# Altium footprint library Constructions.PcbLib: 15 footprints
Each footprint in its own frame and in the unit in brackets; x right, y up, seen from the top. Pads: shape width x height; smd on the part's side, far side on the other; paste and mask are expansions set on the pad; w line width, h text height; cw(c..) or ccw(c..) is an arc to the next point about the centre after c.
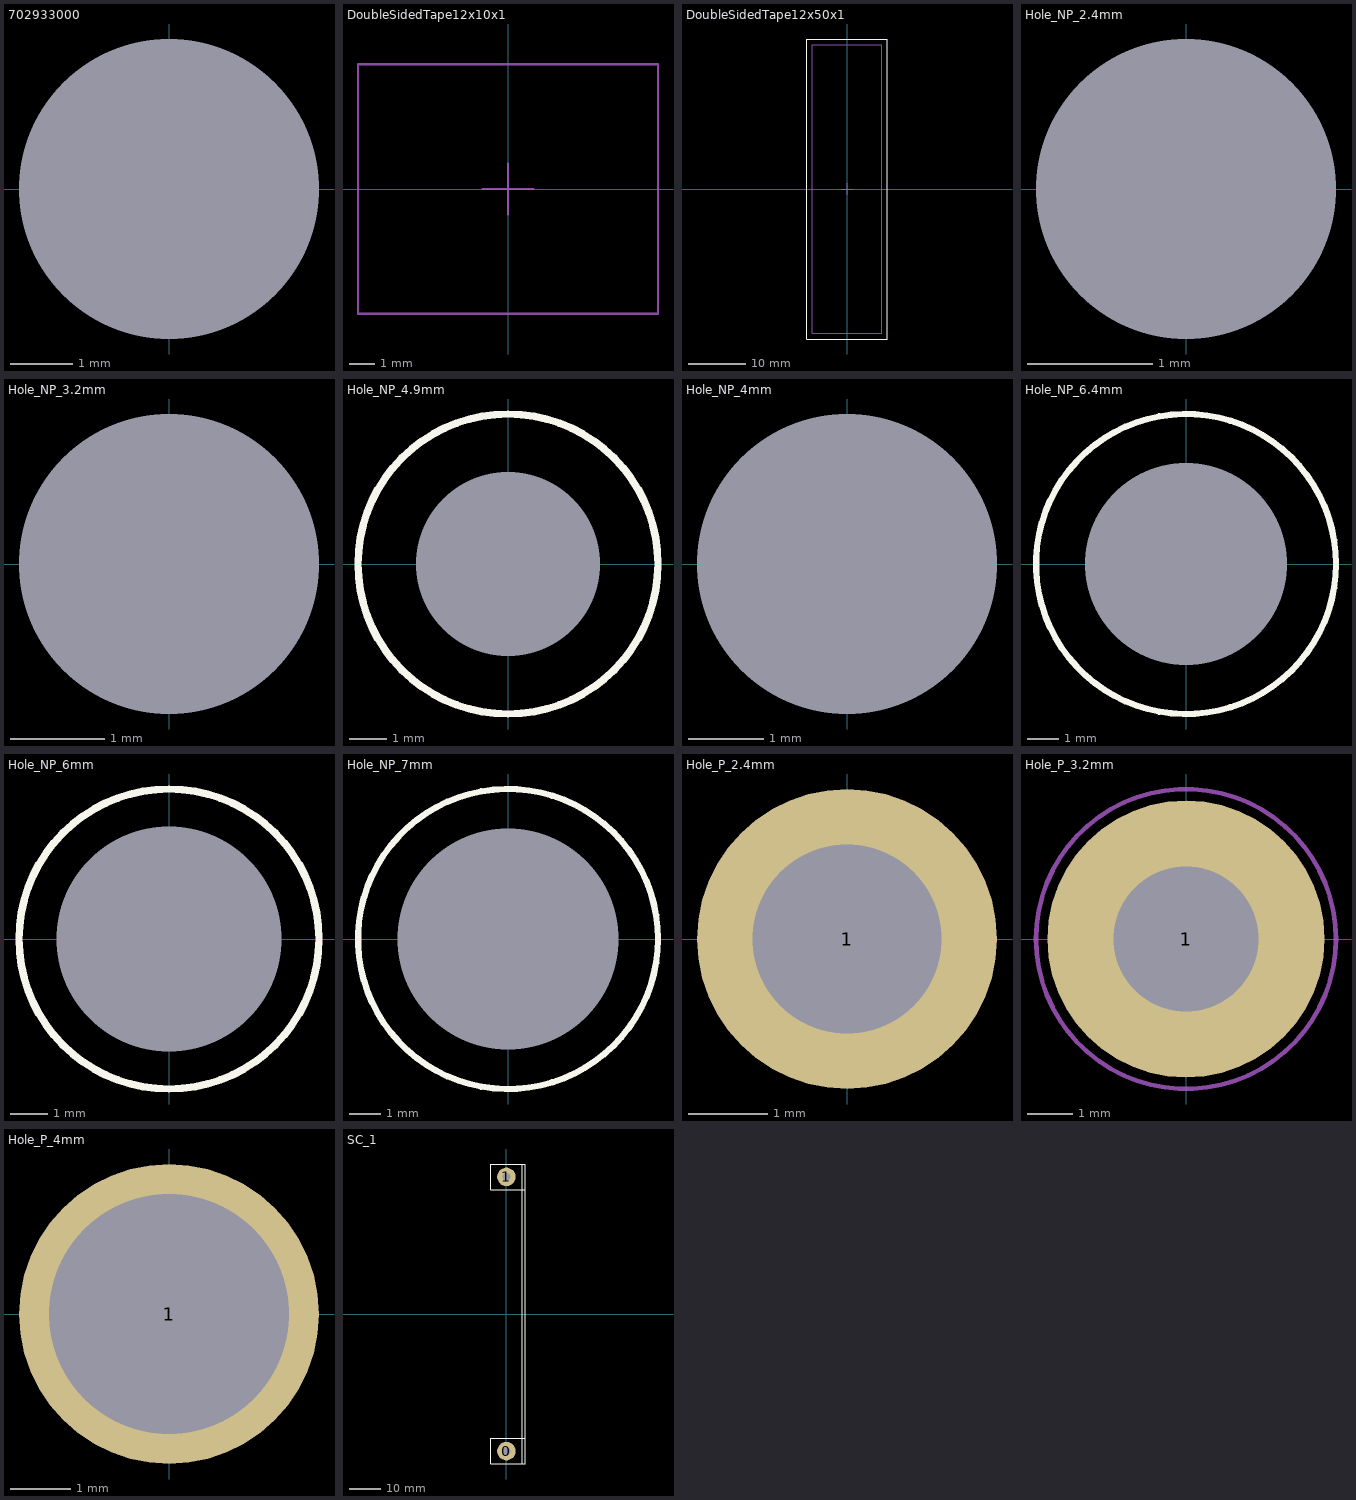
[diagram p0: the footprints below, top view; thin cyan lines are the x and y axes]

## 702933000 [mm] "WA-SNSR Self-Retaining Spacer 9.5mm"
height 9.5
pads (1):
  round 0 hole 4.8 unplated: 0(0,0)
3D body: height 9.5, standoff -3.4, extent -3.2,-3.2 3.2,3.2

## DoubleSidedTape12x10x1 [mm] "Piece of double sided tape for Plurzulis"
Mechanical 13:
  lines w0.1: -6,-5 6,-5 6,5 -6,5 -6,-5
Mechanical 15:
  lines w0.1: -1,0 1,0 ; 0,-1 0,1 ; -6,-5 6,-5 6,5 -6,5 -6,-5
3D body: height 1, standoff 0, extent -6,-5 6,5

## DoubleSidedTape12x50x1 [mm] "Piece of double sided tape for Sebelo Batt"
Top Overlay:
  lines w0.2: -7,-26 -7,26 7,26 7,-26 -7,-26
Mechanical 13:
  lines w0.1: -6,-25 6,-25 6,25 -6,25 -6,-25
Mechanical 15:
  lines w0.1: -1,0 1,0 ; 0,-1 0,1 ; -6,-25 6,-25 6,25 -6,25 -6,-25
3D body: height 1, standoff 0, extent -6,-25 6,25

## Hole_NP_2.4mm [mm] "Non-plated hole 2.4mm"
pads (1):
  round 0 hole 2.4 unplated: 1(0,0)

## Hole_NP_3.2mm [mm] "Non-plated hole 3.2mm"
pads (1):
  round 0 hole 3.2 unplated: 1(0,0)

## Hole_NP_4.9mm [mm] "For Z61J case"
pads (1):
  round 0 hole 4.9 unplated: 1(0,0)
Top Overlay:
  circle w0.2: c0,0 r4

## Hole_NP_4mm [mm]
pads (1):
  round 0 hole 4 unplated: 1(0,0)

## Hole_NP_6.4mm [mm] "For Z61J case"
pads (1):
  round 0 hole 6.4 unplated: 1(0,0)
Top Overlay:
  circle w0.2: c0,0 r4.75

## Hole_NP_6mm [mm] "For Z61J case"
pads (1):
  round 0 hole 6 unplated: 1(0,0)
Top Overlay:
  circle w0.2: c0,0 r4

## Hole_NP_7mm [mm] "For Z61J case"
pads (1):
  round 0 hole 7 unplated: 1(0,0)
Top Overlay:
  circle w0.2: c0,0 r4.75

## Hole_P_2.4mm [mm] "Plated hole 2.4mm"
pads (1):
  round 3.8 hole 2.4: 1(0,0)

## Hole_P_3.2mm [mm] "Plated hole, 3.2mm"
pads (1):
  round 6.1 hole 3.2: 1(0,0)
Mechanical 15:
  circle w0.1: c0,0 r3.3

## Hole_P_4mm [mm] "Plated hole, 4mm"
pads (1):
  round 5 hole 4: 1(0,0)

## RR2LG [mm] "Button Light Guide from RemoteReboot R2"
height 11.5
3D body: height 20.8, standoff 9.5, extent -8.11,-8.11 8.11,8.11
3D body: height 11, standoff 9.5, extent -9.812,-9.812 9.812,9.812
3D body: height 11, standoff 9.5, extent 9.5,-2.361 13.461,2.361
3D body: height 11, standoff 9.5, extent -13.461,-2.361 -9.5,2.361

## SC_1 [mm] "SC_1"
pads (2):
  round 6 hole 2.5: 0(0,-44.25) 1(0,44.25)
Top Overlay:
  lines w0.254: 5.1,-48.4 5.1,48.4 ; 6.1,-40.1 -5.1,-40.1 -5.1,-48.4 6.1,-48.4 6.1,48.4 -5.1,48.4 -5.1,40.1 6.1,40.1
3D body: height 20, standoff 0, extent 5.1,-48.4 6.1,48.4